# Altium schematic symbol library CL05B104KB54PNC.SchLib: 1 symbol
Pins are listed as number, name and electrical type; pins without a type are passive.

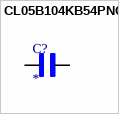
[diagram p0: symbol CL05B104KB54PNC]

## CL05B104KB54PNC
designator C?
MP: CL05B104KB54PNC; Package: None; Price: None; Value: *; Availability: Unavailable
footprint CAPC1005X70N
pins: 1, 2